# Altium schematic symbol library Realtek.SchLib: 4 symbols
Pins are listed as number, name and electrical type; pins without a type are passive.

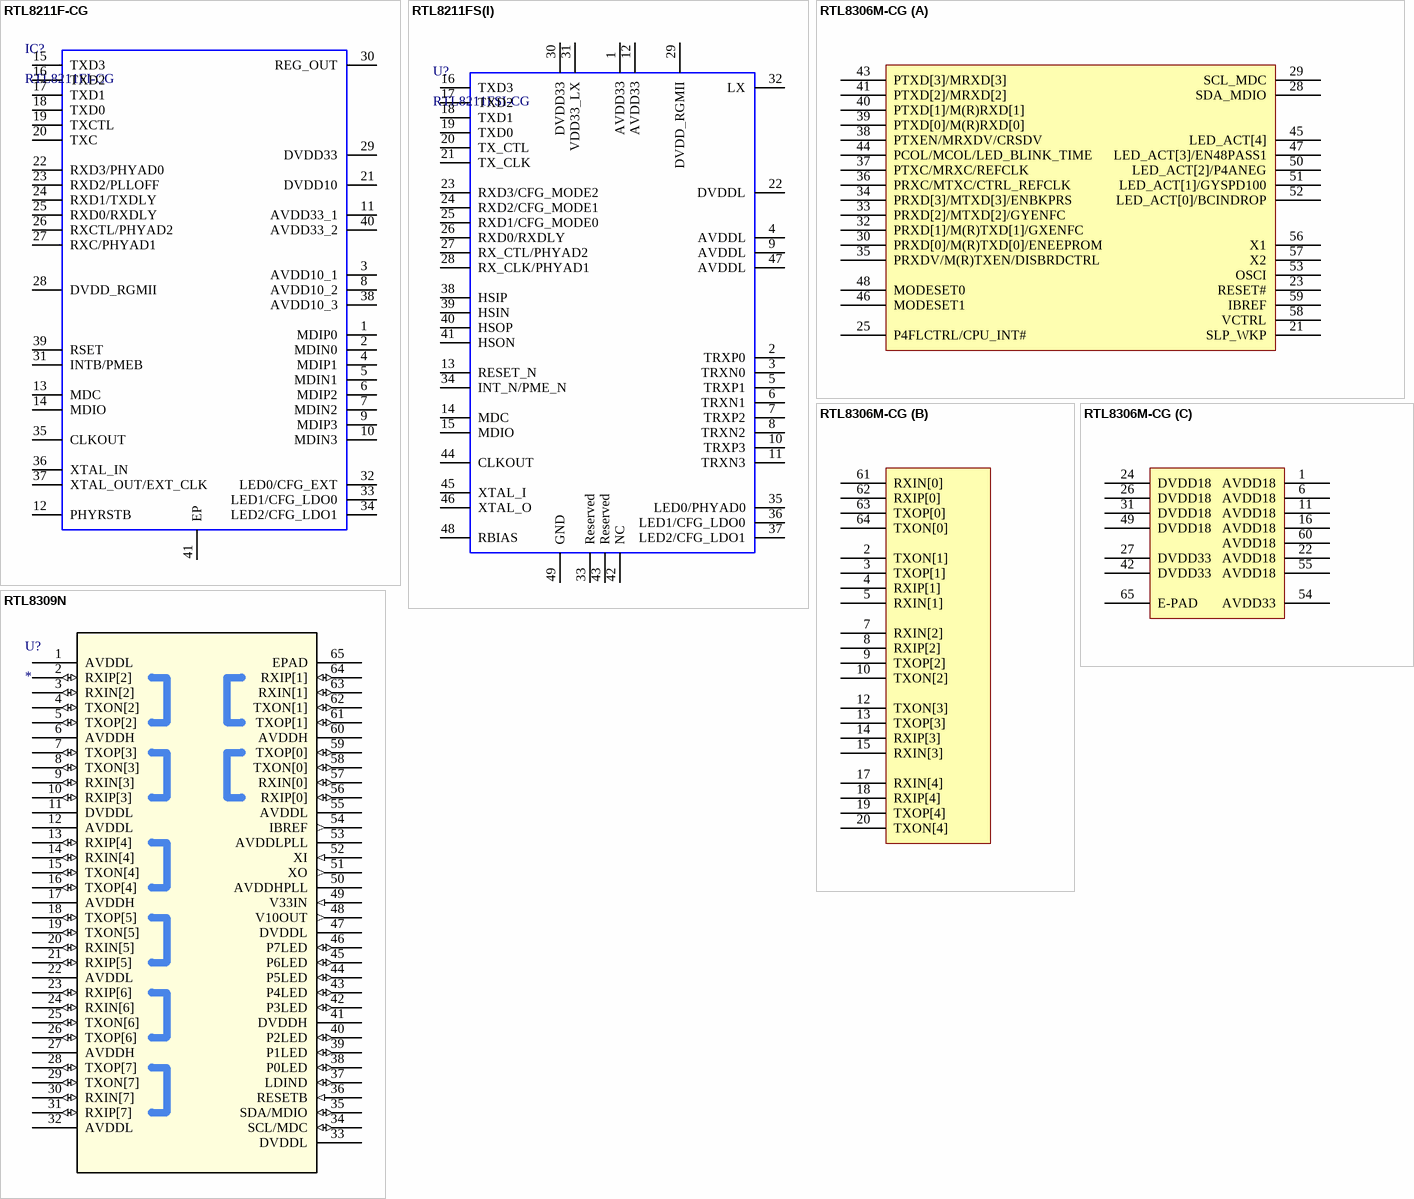
[diagram p0: symbols RTL8211F-CG to RTL8309N]

## RTL8211F-CG
designator IC?, comment RTL8211FI-CG
The Realtek RTL8211F-CG/RTL8211FD-CG/RTL8211FI-CG/RTL8211FDI-CG is a highly integrated Ethernet transceiver that complies with 10Base-T, 100Base-TX, and 1000Base-T IEEE 802.3 standards. It provides all the necessary physical layer functions to transmit and receive Ethernet packets over CAT.5 UTP cable. The RTL8211FI and RTL8211FDI are manufactured to industrial grade standards.; Height: 0.9mm; Manufacturer_Name: Realtek; Manufacturer_Part_Number: RTL8211F-CG
footprint QFN40P500X500X90-41N-D
pins: 1 MDIP0, 2 MDIN0, 3 AVDD10_1, 4 MDIP1, 5 MDIN1, 6 MDIP2, 7 MDIN2, 8 AVDD10_2, 9 MDIP3, 10 MDIN3, 11 AVDD33_1, 12 PHYRSTB, 13 MDC, 14 MDIO, 15 TXD3, 16 TXD2, 17 TXD1, 18 TXD0, 19 TXCTL, 20 TXC, 21 DVDD10, 22 RXD3/PHYAD0, 23 RXD2/PLLOFF, 24 RXD1/TXDLY, 25 RXD0/RXDLY, 26 RXCTL/PHYAD2, 27 RXC/PHYAD1, 28 DVDD_RGMII, 29 DVDD33, 30 REG_OUT, 31 INTB/PMEB, 32 LED0/CFG_EXT, 33 LED1/CFG_LDO0, 34 LED2/CFG_LDO1, 35 CLKOUT, 36 XTAL_IN, 37 XTAL_OUT/EXT_CLK, 38 AVDD10_3, 39 RSET, 40 AVDD33_2, 41 EP

## RTL8211FS(I)
designator U?, comment RTL8211FSI-CG
INTEGRATED 10/100/1000M ETHERNET / PRECISION TRANSCEIVER
pins: 1 AVDD33, 2 TRXP0, 3 TRXN0, 4 AVDDL, 5 TRXP1, 6 TRXN1, 7 TRXP2, 8 TRXN2, 9 AVDDL, 10 TRXP3, 11 TRXN3, 12 AVDD33, 13 RESET_N, 14 MDC, 15 MDIO, 16 TXD3, 17 TXD2, 18 TXD1, 19 TXD0, 20 TX_CTL, 21 TX_CLK, 22 DVDDL, 23 RXD3/CFG_MODE2, 24 RXD2/CFG_MODE1, 25 RXD1/CFG_MODE0, 26 RXD0/RXDLY, 27 RX_CTL/PHYAD2, 28 RX_CLK/PHYAD1, 29 DVDD_RGMII, 30 DVDD33, 31 VDD33_LX, 32 LX, 33 Reserved, 34 INT_N/PME_N, 35 LED0/PHYAD0, 36 LED1/CFG_LDO0, 37 LED2/CFG_LDO1, 38 HSIP, 39 HSIN, 40 HSOP, 41 HSON, 42 NC, 43 Reserved, 44 CLKOUT, 45 XTAL_I, 46 XTAL_O, 47 AVDDL, 48 RBIAS, 49 GND

## RTL8306M-CG
designator U?
SINGLE-CHIP 6-PORT 10/100MBPS / ETHERNET SWITCH CONTROLLER WITH / MII/RMII INTERFACE
footprint QFN64 9x9_L (64脚，长x宽x高：9x9x1mm，脚距：0.5mm)
footprint QFN64 9x9_M (64脚，长x宽x高：9x9x1mm，脚距：0.5mm)
footprint QFN64 9x9_N (64脚，长x宽x高：9x9x1mm，脚距：0.5mm)
part A pins: 21 SLP_WKP, 23 RESET#, 25 P4FLCTRL/CPU_INT#, 28 SDA_MDIO, 29 SCL_MDC, 30 PRXD[0]/M(R)TXD[0]/ENEEPROM, 32 PRXD[1]/M(R)TXD[1]/GXENFC, 33 PRXD[2]/MTXD[2]/GYENFC, 34 PRXD[3]/MTXD[3]/ENBKPRS, 35 PRXDV/M(R)TXEN/DISBRDCTRL, 36 PRXC/MTXC/CTRL_REFCLK, 37 PTXC/MRXC/REFCLK, 38 PTXEN/MRXDV/CRSDV, 39 PTXD[0]/M(R)RXD[0], 40 PTXD[1]/M(R)RXD[1], 41 PTXD[2]/MRXD[2], 43 PTXD[3]/MRXD[3], 44 PCOL/MCOL/LED_BLINK_TIME, 45 LED_ACT[4], 46 MODESET1, 47 LED_ACT[3]/EN48PASS1, 48 MODESET0, 50 LED_ACT[2]/P4ANEG, 51 LED_ACT[1]/GYSPD100, 52 LED_ACT[0]/BCINDROP, 53 OSCI, 56 X1, 57 X2, 58 VCTRL, 59 IBREF
part B pins: 2 TXON[1], 3 TXOP[1], 4 RXIP[1], 5 RXIN[1], 7 RXIN[2], 8 RXIP[2], 9 TXOP[2], 10 TXON[2], 12 TXON[3], 13 TXOP[3], 14 RXIP[3], 15 RXIN[3], 17 RXIN[4], 18 RXIP[4], 19 TXOP[4], 20 TXON[4], 61 RXIN[0], 62 RXIP[0], 63 TXOP[0], 64 TXON[0]
part C pins: 1 AVDD18, 6 AVDD18, 11 AVDD18, 16 AVDD18, 22 AVDD18, 24 DVDD18, 26 DVDD18, 27 DVDD33, 31 DVDD18, 42 DVDD33, 49 DVDD18, 54 AVDD33, 55 AVDD18, 60 AVDD18, 65 E-PAD

## RTL8309N
designator U?
No Description Available; Mfr_Name: Realtek; Type: Embedded; RefDes: RefDes
footprint QFN64_RTL8309_RTK
pins: 1 AVDDL (power), 2 RXIP[2] (io), 3 RXIN[2] (io), 4 TXON[2] (io), 5 TXOP[2] (io), 6 AVDDH (power), 7 TXOP[3] (io), 8 TXON[3] (io), 9 RXIN[3] (io), 10 RXIP[3] (io), 11 DVDDL (power), 12 AVDDL (power), 13 RXIP[4] (io), 14 RXIN[4] (io), 15 TXON[4] (io), 16 TXOP[4] (io), 17 AVDDH (power), 18 TXOP[5] (io), 19 TXON[5] (io), 20 RXIN[5] (io), 21 RXIP[5] (io), 22 AVDDL (power), 23 RXIP[6] (io), 24 RXIN[6] (io), 25 TXON[6] (io), 26 TXOP[6] (io), 27 AVDDH (power), 28 TXOP[7] (io), 29 TXON[7] (io), 30 RXIN[7] (io), 31 RXIP[7] (io), 32 AVDDL (power), 33 DVDDL (power), 34 SCL/MDC (io), 35 SDA/MDIO (io), 36 RESETB (in), 37 LDIND (io), 38 P0LED (io), 39 P1LED (io), 40 P2LED (io), 41 DVDDH (power), 42 P3LED (io), 43 P4LED (io), 44 P5LED (io), 45 P6LED (io), 46 P7LED (io), 47 DVDDL (power), 48 V10OUT (out), 49 V33IN (in), 50 AVDDHPLL (power), 51 XO (out), 52 XI (in), 53 AVDDLPLL (power), 54 IBREF (out), 55 AVDDL (power), 56 RXIP[0] (io), 57 RXIN[0] (io), 58 TXON[0] (io), 59 TXOP[0] (io), 60 AVDDH (power), 61 TXOP[1] (io), 62 TXON[1] (io), 63 RXIN[1] (io), 64 RXIP[1] (io), 65 EPAD (power)